# EAGLE library part LT3757 (library PowerIC)
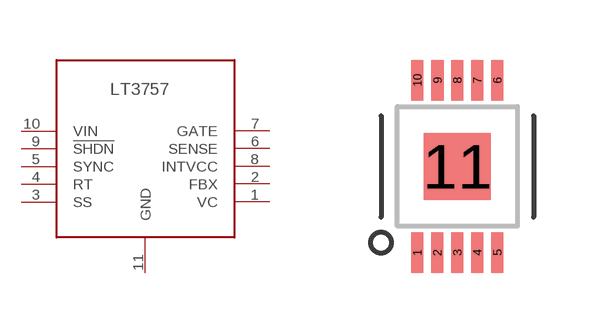
[diagram p0: symbol with the pads of 10-MSOP-EP; footprint 10-MSOP-EP]

Designator prefix -

## LT3757  [10-MSOP-EP]
1  VC
2  FBX  in
3  SS
4  RT
5  SYNC  in
6  SENSE  in
7  GATE  out
8  INTVCC  pwr
9  !SHDN  in
10  VIN  pwr
11  GND  pwr

## Footprint 10-MSOP-EP (pad centres in mm)
smd 0.305 x 1.016: 1 -1.001,-2.159; 2 -0.5,-2.159; 3 0,-2.159; 4 0.5,-2.159; 5 1.001,-2.159; 6 1.001,2.159; 7 0.5,2.159; 8 0,2.159; 9 -0.495,2.159; 10 -1.001,2.159
smd 1.676 x 1.676: 11 0,0